# Altium integrated library HU_revB.IntLib: 70 symbols (part 1 of 2)
Pins are listed as number, name and electrical type; pins without a type are passive.

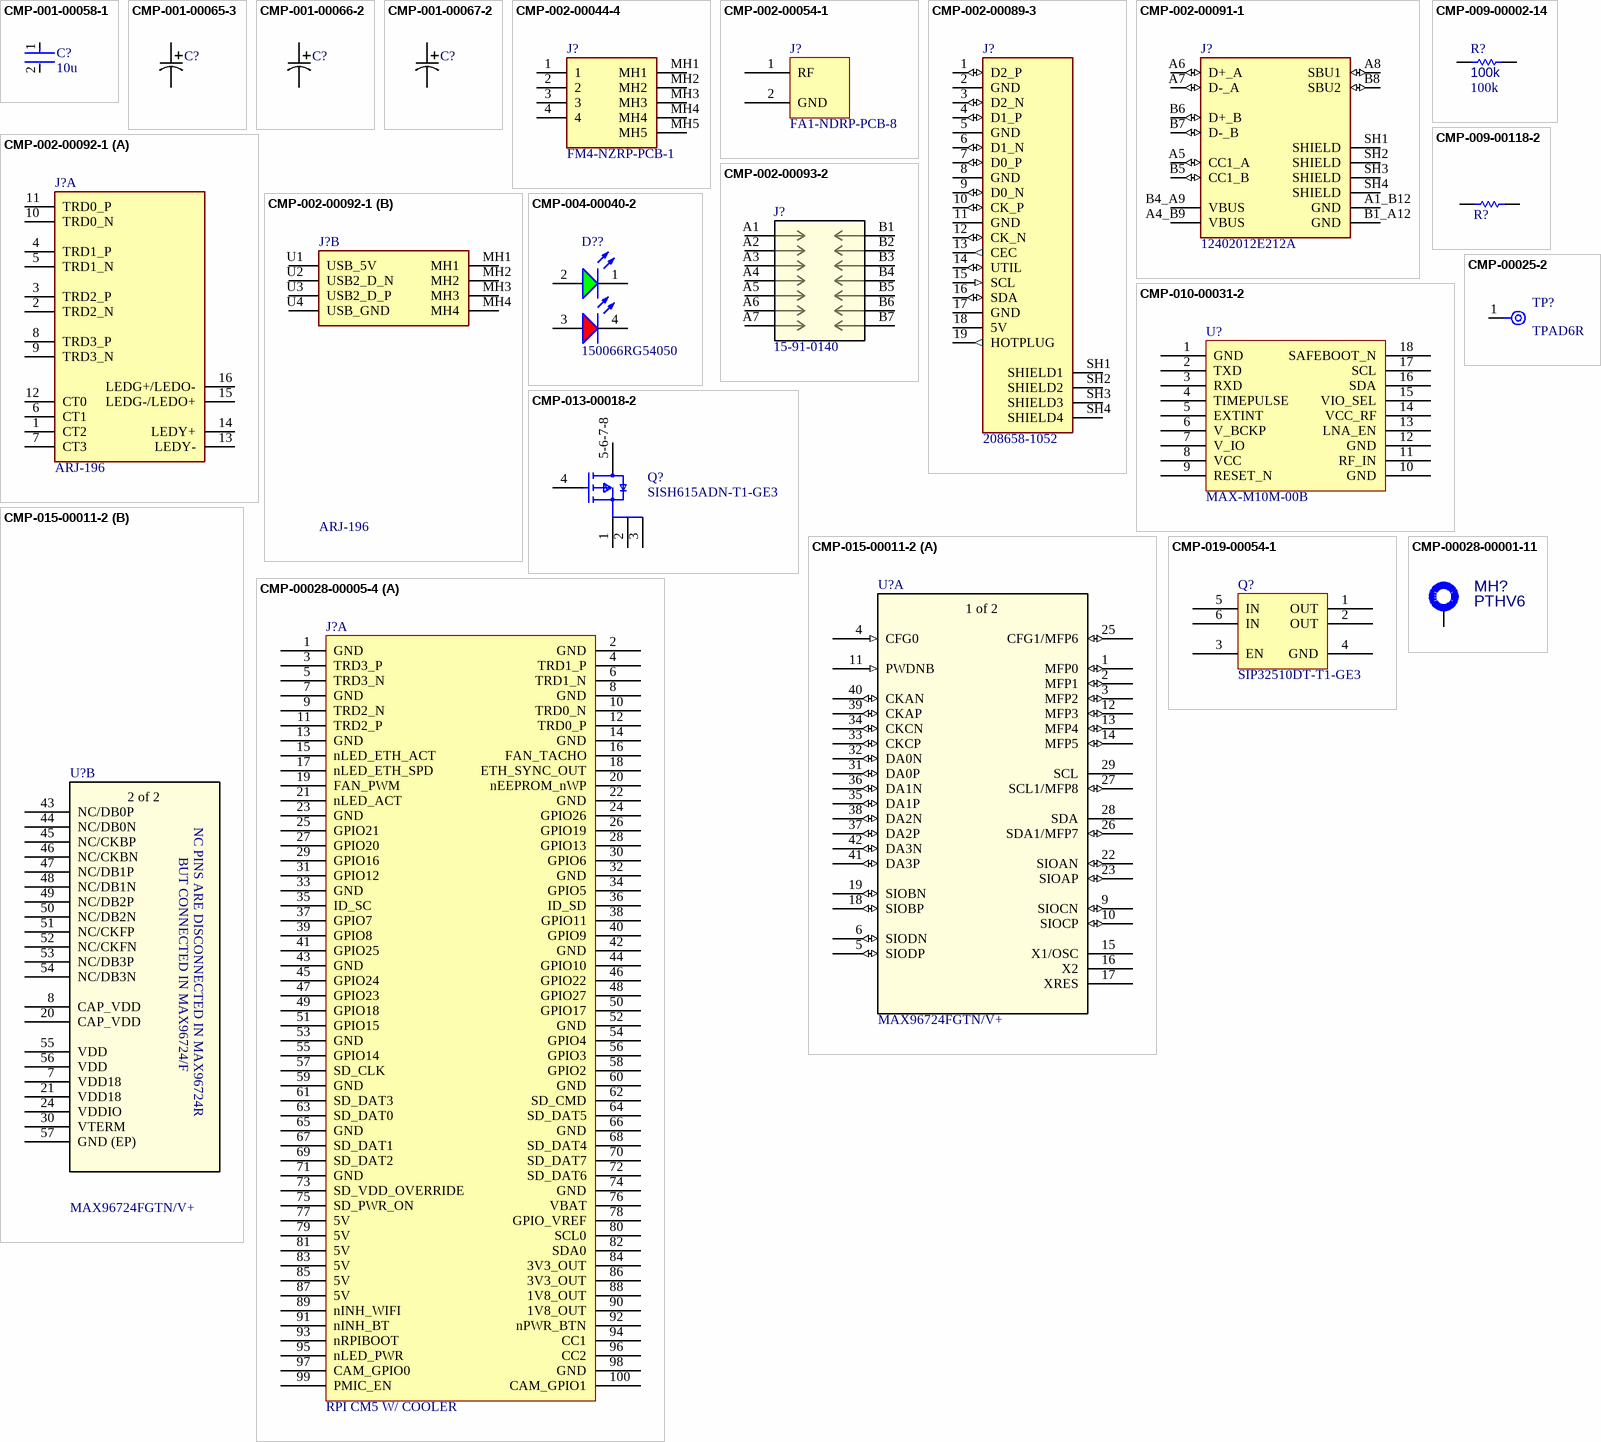
[diagram p0: symbols CMP-001-00058-1 to CMP-00028-00005-4]

## CMP-001-00058-1
designator C?, comment 10u
LARGE PADS, 0402 CAP, CHANGE COMMENT TO MATCH REAL P/N; Manufacturer: Taiyo Yuden; Manufacturer Part Number: EMK105BJ105KV-F; Capacitor Type: Ceramic; Min Operating Temperature: -55°C; Mounting Technology: Surface Mount; Pins: 2; Case/Package: 0402; RoHS Compliant: Yes; Max Operating Temperature: 85°C; Component Type: Capacitors
footprint FP-0402-L_1_0_0_05-W_0_5-IPC_A
footprint FP-0402-L_1_0_0_05-W_0_5-IPC_C
footprint FP-0402-L_1_0_0_05-W_0_5-IPC_B
footprint FP-0402-L_1_0_0_05-W_0_5-MFG
pins: 1, 2

## CMP-001-00065-3
designator C?, comment T495D106M035ATE260  (value not drawn)
Tantalum Capacitor, Polarized, Tantalum (dry/solid), 35V, 20% +Tol, 20% -Tol, 10uF, Surface Mount, 2917; Manufacturer: KEMET; Value: 10µF; Case/Package: Molded; Mounting Technology: Surface Mount; Max Operating Temperature: 125°C; Tolerance: 20%; Min Operating Temperature: -55°C; Manufacturer Part Number: T495D106M035ATE260; Component Type: Capacitors
footprint T495D106M035ATE260-Footprint-1
pins: 1, 2

## CMP-001-00066-2
designator C?, comment T495D475K050ATE300  (value not drawn)
Cap Tant Solid 4.7uF 50V D CASE 10% (7.3 X 4.3 X 2.8mm) SMD 7343-31 0.3 Ohm 125 C T/R; Manufacturer: KEMET; Value: 4.7µF; Min Operating Temperature: -55°C; Voltage Rating: 50V; Tolerance: 10%; Mounting Technology: Surface Mount; Max Operating Temperature: 125°C; Case/Package: 7343-31; Pins: 2; Manufacturer Part Number: T495D475K050ATE300; Component Type: Capacitors
footprint T495D475K050ATE300-Footprint-1
pins: 1, 2

## CMP-001-00067-2
designator C?, comment T495D337K010ATE150  (value not drawn)
330uF Solid MnO2 Tantalum Capacitor, 10 V dc +/-10%, T495 Series; Manufacturer: KEMET; Tolerance: 10%; Voltage Rating: 10V; Value: 330µF; Case/Package: 2917; Min Operating Temperature: -55°C; Mounting Technology: Surface Mount; Max Operating Temperature: 125°C; Manufacturer Part Number: T495D337K010ATE150; Component Type: Capacitors
footprint T495D337K010ATE150-Footprint-1
pins: 1, 2

## CMP-002-00044-4
designator J?, comment FM4-NZRP-PCB-1
Connector RF Mini-FAKRA Plug 9GHz 50Ohm Solder Right Angle Through Hole; Source: fakra4ch.SchLib; Component Type: Standard; Pins: 9; Design Item ID: CMP-002-00085-1; Component Type: Connectors
footprint FM4-NZRP-PCB-1-Footprint-1
pins: 1, 2, 3, 4, MH1, MH2, MH3, MH4, MH5

## CMP-002-00054-1
designator J?, comment FA1-NDRP-PCB-8
RF F Connector, Male, Board Mount, Solder Terminal, Plug; Manufacturer: Amphenol RF; Connector Type: RF F CONNECTOR; RoHS Compliant: Yes; Mounting Technology: Board; Manufacturer Part Number: FA1-NDRP-PCB-8; Component Type: Connectors
footprint FA1-NDRP-PCB-8-Footprint-1
pins: 1 RF, 2 GND

## CMP-002-00089-3
designator J?, comment 208658-1052
HDMI CONNECTOR, RCPT, 19POS, SMT; Available until stocks are exhausted Alternative available; Manufacturer: Molex; Gender: Female; Min Operating Temperature: -20°C; Max Operating Temperature: 85°C; Pins: 19; Manufacturer Part Number: 208658-1052; Component Type: Connectors
footprint 208658-1052-Footprint-1
pins: 1 D2_P (io), 2 GND, 3 D2_N (io), 4 D1_P (io), 5 GND, 6 D1_N (io), 7 D0_P (io), 8 GND, 9 D0_N (io), 10 CK_P (io), 11 GND, 12 CK_N (io), 13 CEC (out), 14 UTIL (io), 15 SCL (in), 16 SDA (io), 17 GND, 18 5V, 19 HOTPLUG (out), SH1 SHIELD1, SH2 SHIELD2, SH3 SHIELD3, SH4 SHIELD4

## CMP-002-00091-1
designator J?, comment 12402012E212A
USB Connector, USB Type C, USB 2.0, Receptacle, 24 Ways, Surface Mount, Through Hole Mount; Manufacturer: Amphenol; Pins: 24; Manufacturer Part Number: 12402012E212A; Component Type: Connectors
footprint 12402012E212A-Footprint-1
pins: A1_B12 GND (power), A4_B9 VBUS (power), A5 CC1_A (io), A6 D+_A (io), A7 D-_A (io), A8 SBU1 (io), B1_A12 GND (power), B4_A9 VBUS (power), B5 CC1_B (io), B6 D+_B (io), B7 D-_B (io), B8 SBU2 (io), SH1 SHIELD, SH2 SHIELD, SH3 SHIELD, SH4 SHIELD

## CMP-002-00092-1
designator J?, comment ARJ-196
Modular Connectors / Ethernet Connectors CONN MAGJACK 1PORT 1000 BASE-T; Manufacturer: Abracon; Connector Type: RJ45, USB; Max Operating Temperature: 85°C; Mounting Technology: Through Hole; Min Operating Temperature: -40°C; Manufacturer Part Number: ARJ-196; Component Type: Connectors
footprint ARJ-196-Footprint-1
part A pins: 1 CT2, 2 TRD2_N, 3 TRD2_P, 4 TRD1_P, 5 TRD1_N, 6 CT1, 7 CT3, 8 TRD3_P, 9 TRD3_N, 10 TRD0_N, 11 TRD0_P, 12 CT0, 13 LEDY-, 14 LEDY+, 15 LEDG-/LEDO+, 16 LEDG+/LEDO-
part B pins: MH1, MH2, MH3, MH4, U1 USB_5V, U2 USB2_D_N, U3 USB2_D_P, U4 USB_GND

## CMP-002-00093-2
designator J?, comment 15-91-0140
Conn.; Rect./PCB; Header; 14 Circuit; SMT; Dual Row; Vertical; C-Grid Series; Gold Plate; Manufacturer: Molex; Gender: Male; Min Operating Temperature: -40°C; Max Operating Temperature: 105°C; Mounting Technology: Surface Mount; Pins: 14; Manufacturer Part Number: 15-91-0140; Component Type: Connectors
footprint 15-91-0140-Footprint-1
pins: A1, A2, A3, A4, A5, A6, A7, B1, B2, B3, B4, B5, B6, B7

## CMP-004-00040-2
designator D??, comment 150066RG54050
Led, Red/Grn, 180Mcd/230Mcd, 624Nm/525Nm Rohs Compliant: Yes; Source: rgled.SchLib; Component Type: Standard; Pins: 4; Design Item ID: CMP-004-00034-2; Component Type: Diodes
footprint WL-SBCD_0606 (SMT Bi-color Chip LED Diffuesed, body 1.5x1.6mm)
pins: 1 K, 2 A, 3 A, 4 K

## CMP-009-00002-14
designator R?, comment 100k
Resistor; Value: 100k; Component Type: Resistors
footprint R0805A (0805 Chip Resistor, Body 2.00x1.25mm, IPC Low Density)
footprint R0603A (Chip Resistor, 2-Leads, Body 1.55x0.80mm, IPC Low Density)
footprint R1206A (Chip Resistor, 2-Leads, Body 3.20x1.60mm, IPC Low Density)
footprint R2010A (Chip Resistor, 2-Leads, Body 5.08x2.54mm, IPC Low Density)
footprint R0603B (Chip Resistor, 0603, 2-Leads, Body 1.58x0.85mm, IPC Medium Density)
footprint R0805B (Chip Resistor, 0805, 2-Leads, Body 2.05x1.25mm, IPC Medium Density)
footprint R1206B (Chip Resistor, 1206, 2-Leads, Body 3.20x1.60mm, IPC Medium Density)
footprint 2512A
footprint Resistor-Footprint-1
pins: 1, 2

## CMP-009-00118-2
designator R?, comment 0402 JUMPER  (value not drawn)
READ THE NAME; Pins: 2; Component Type: Standard; Design Item ID: CMP-009-00206-2; Source: 0402jump.SchLib; Component Type: Resistors
footprint RESC1005X40X25ML05T05 (Chip Resistor, 2-Leads, Body 1.00x0.50mm, IPC Low Density)
footprint RESC1005X40X25LL05T05 (Chip Resistor, 2-Leads, Body 1.00x0.50mm, IPC High Density)
footprint RESC1005X40X25NL05T05 (Chip Resistor, 2-Leads, Body 1.00x0.50mm, IPC Medium Density)
pins: 1, 2
1 alternate drawing of the same symbol

## CMP-010-00031-2
designator U?, comment MAX-M10M-00B
Gnss Lcc Rx Mod, Rom, Crystal; Manufacturer: u-blox; Manufacturer Part Number: MAX-M10M-00B; Component Type: Sensors
footprint MAX-M10M-00B-Footprint-1
pins: 1 GND, 2 TXD, 3 RXD, 4 TIMEPULSE, 5 EXTINT, 6 V_BCKP, 7 V_IO, 8 VCC, 9 RESET_N, 10 GND, 11 RF_IN, 12 GND, 13 LNA_EN, 14 VCC_RF, 15 VIO_SEL, 16 SDA, 17 SCL, 18 SAFEBOOT_N

## CMP-013-00018-2
designator Q?, comment SISH615ADN-T1-GE3
Trans MOSFET P-CH 20V 22.1A 8-Pin PowerPAK 1212 EP T/R; Source: SISH615ADN-T1-GE3.SchLib; Design Item ID: CMP-013-00036-4; Component Type: Standard; Pins: 5; Component Type: Transistors
footprint SISH615ADN-T1-GE3-Footprint-1
pins: 1 S, 2 S, 3 S, 4 G, 5-6-7-8 D

## CMP-015-00011-2
designator U?, comment MAX96724FGTN/V+
Quad Tunneling GMSL2/1 to CSI-2 Deserializer; Manufacturer: Analog Devices; Manufacturer Part Number: MAX96724FGTN/V+; Component Type: Interface
footprint MAX96724FGTN_V+-Footprint-1
part A pins: 1 MFP0 (io), 2 MFP1 (io), 3 MFP2 (io), 4 CFG0 (in), 5 SIODP (io), 6 SIODN (io), 9 SIOCN (io), 10 SIOCP (io), 11 PWDNB (in), 12 MFP3 (io), 13 MFP4 (io), 14 MFP5 (io), 15 X1/OSC, 16 X2, 17 XRES, 18 SIOBP (io), 19 SIOBN (io), 22 SIOAN (io), 23 SIOAP (io), 25 CFG1/MFP6 (io), 26 SDA1/MFP7 (io), 27 SCL1/MFP8 (io), 28 SDA, 29 SCL, 31 DA0P (io), 32 DA0N (io), 33 CKCP (io), 34 CKCN (io), 35 DA1P (io), 36 DA1N (io), 37 DA2P (io), 38 DA2N (io), 39 CKAP (io), 40 CKAN (io), 41 DA3P (io), 42 DA3N (io)
part B pins: 7 VDD18 (power), 8 CAP_VDD (power), 20 CAP_VDD (power), 21 VDD18 (power), 24 VDDIO (power), 30 VTERM (power), 43 NC/DB0P, 44 NC/DB0N, 45 NC/CKBP, 46 NC/CKBN, 47 NC/DB1P, 48 NC/DB1N, 49 NC/DB2P, 50 NC/DB2N, 51 NC/CKFP, 52 NC/CKFN, 53 NC/DB3P, 54 NC/DB3N, 55 VDD (power), 56 VDD (power), 57 GND (EP) (power)
part A text: 1 of 2
part B text: 2 of 2; NC PINS ARE DISCONNECTED IN MAX96724R; BUT CONNECTED IN MAX96724/F

## CMP-019-00054-1
designator Q?, comment SIP32510DT-T1-GE3
Power Switch ICs – Power Distribution; VISHAY; SIP32510DT-T1-GE3; 1; 1; 5.5 V; SOT-23-6; Max Supply Voltage: 5.5V; Max Power Dissipation: 833mW; Min Supply Voltage: 1.2V; Case/Package: SOT-23-6; Mounting Technology: Surface Mount; Max Operating Temperature: 85°C; Min Operating Temperature: -40°C; Manufacturer: Vishay; Manufacturer Part Number: SIP32510DT-T1-GE3; Component Type: Power Supply
footprint SOT95P284X110-6N (SOT23, 6-Leads, Body 2.98x2.84mm, Pitch 0.95mm, IPC Medium Density)
pins: 1 OUT, 2 OUT, 3 EN, 4 GND, 5 IN, 6 IN

## CMP-00025-2
designator TP?, comment TPAD6R
Test Point .6mm; Component Type: Test Points
footprint New footprint 1
pins: 1 TP

## CMP-00028-00001-11
designator MH?, comment PTHV6  (net tie, no BOM)
Plated mounting hole with 6 peripheral vias. This is a generic symbol that groups all relevant footprints.; Component Type: Mechanical
footprint PTHV6 4-40 Tight (4-40 plated mounting hole with 6 peripheral vias. 0.25in OD, 0.12in ID. Won't fit washers, may not fit some screws or standoffs)
footprint PTHV6 4-40 (4-40 plated mounting hole with 6 peripheral vias. 0.25in OD, 0.12in ID. Accomodates up to 0.32in OD washers)
footprint PTHV6 M2.5 Tight (M2.5 plated mounting hole with 6 peripheral vias. 6mm OD, 3mm ID)
footprint PTHV6 M3 Tight (M3 plated mounting hole with 6 peripheral vias. 7mm OD, 3.4mm ID)
footprint PTHV6 M2
pins: 1 MH, 2 V1, 3 V2, 4 V3, 5 V4, 6 V5, 7 V6

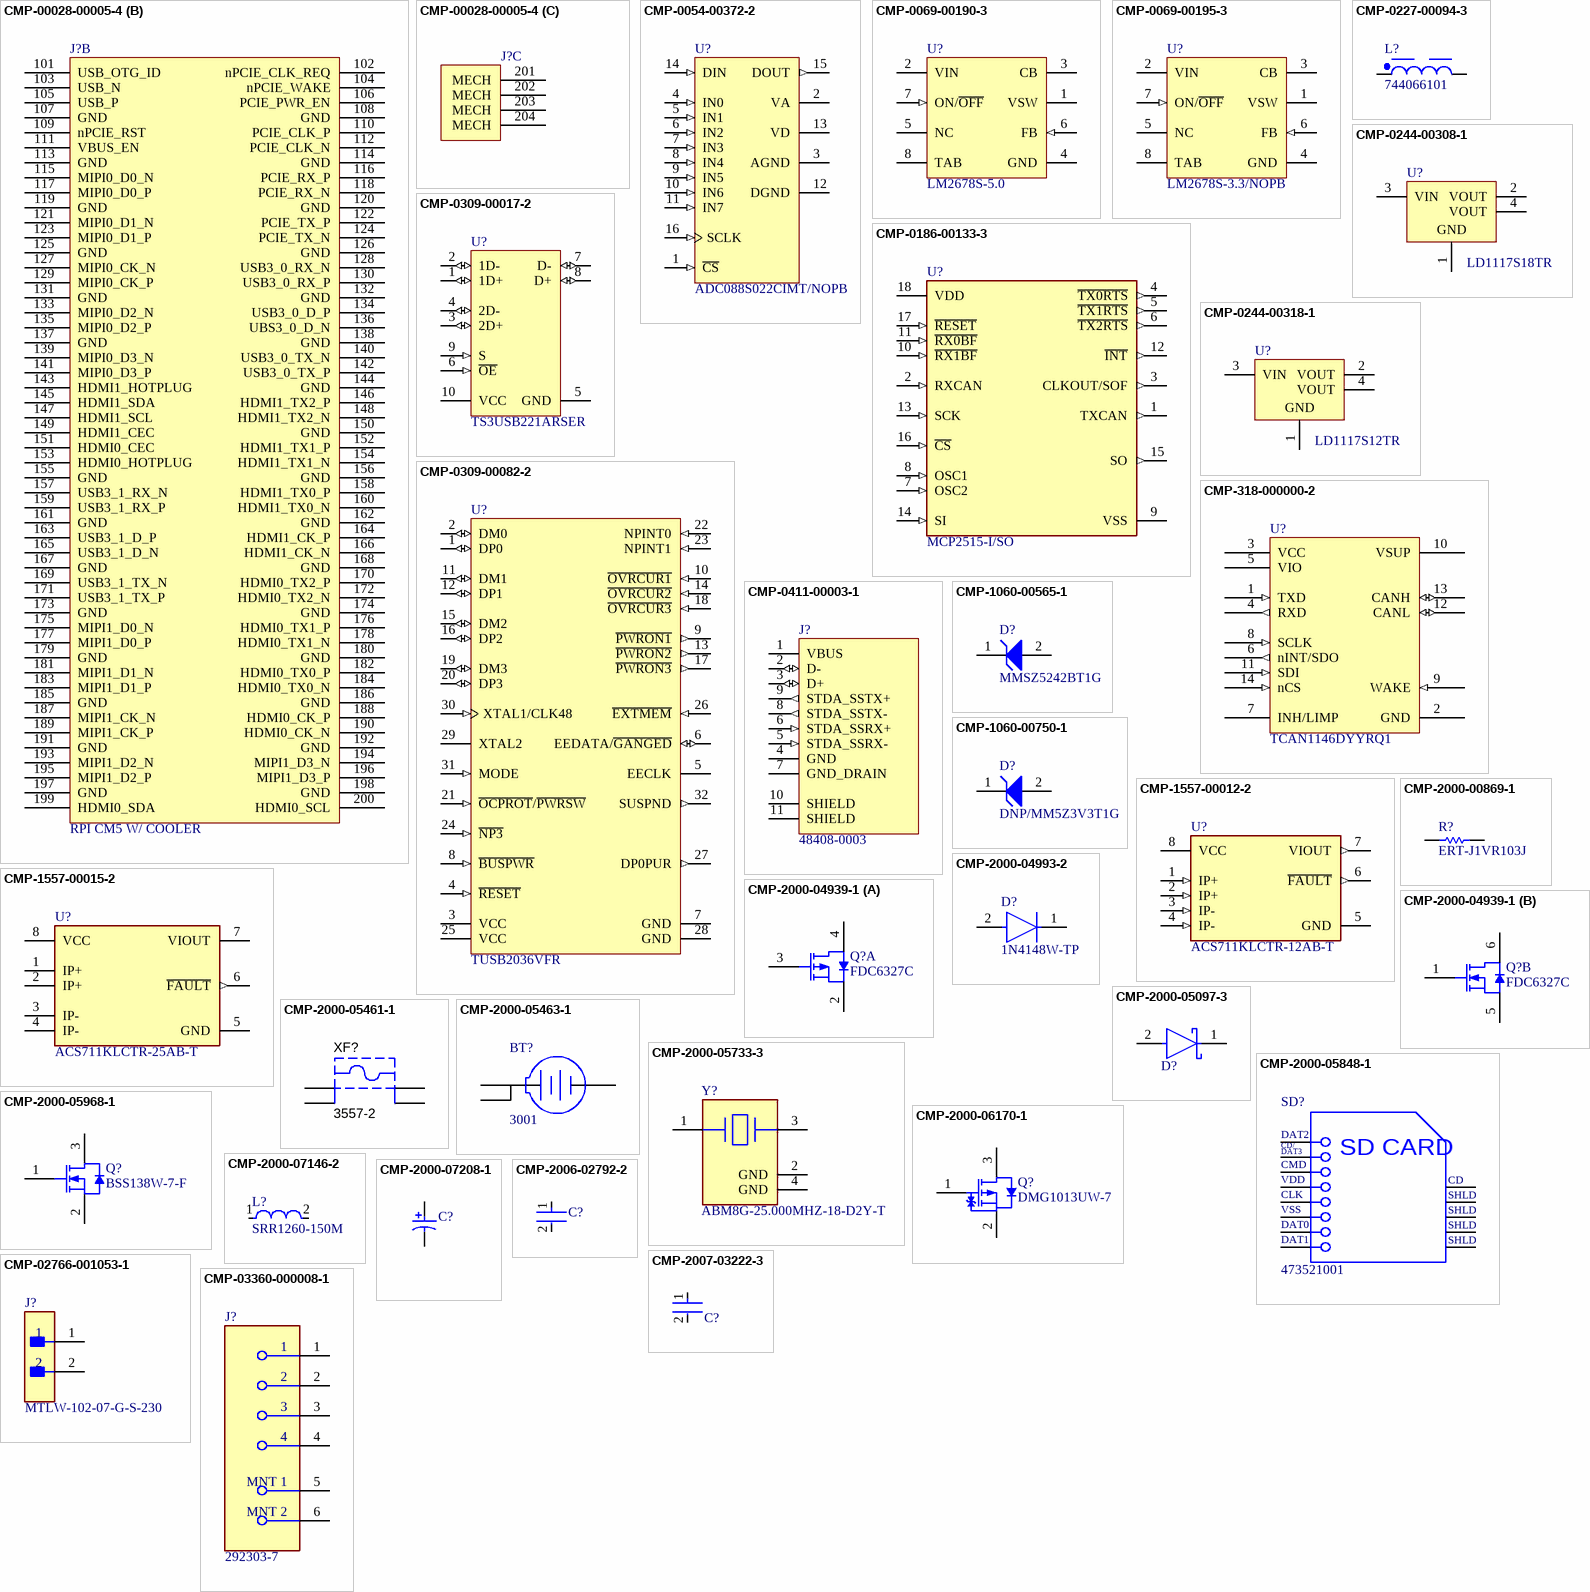
[diagram p1: symbols CMP-00028-00005-4 to CMP-03360-000008-1]

## CMP-00028-00005-4
designator J?, comment RPI CM5 W/ COOLER
Mechanical placeholder for RPI CM5 w/ active cooler on it; Manufacturer: Raspberry Pi; Manufacturer Part Number: CM5116032; Component Type: Mechanical
footprint RPI CM5 W_ COOLER-Footprint-1
part A pins: 1 GND, 2 GND, 3 TRD3_P, 4 TRD1_P, 5 TRD3_N, 6 TRD1_N, 7 GND, 8 GND, 9 TRD2_N, 10 TRD0_N, 11 TRD2_P, 12 TRD0_P, 13 GND, 14 GND, 15 nLED_ETH_ACT, 16 FAN_TACHO, 17 nLED_ETH_SPD, 18 ETH_SYNC_OUT, 19 FAN_PWM, 20 nEEPROM_nWP, 21 nLED_ACT, 22 GND, 23 GND, 24 GPIO26, 25 GPIO21, 26 GPIO19, 27 GPIO20, 28 GPIO13, 29 GPIO16, 30 GPIO6, 31 GPIO12, 32 GND, 33 GND, 34 GPIO5, 35 ID_SC, 36 ID_SD, 37 GPIO7, 38 GPIO11, 39 GPIO8, 40 GPIO9, 41 GPIO25, 42 GND, 43 GND, 44 GPIO10, 45 GPIO24, 46 GPIO22, 47 GPIO23, 48 GPIO27, 49 GPIO18, 50 GPIO17, 51 GPIO15, 52 GND, 53 GND, 54 GPIO4, 55 GPIO14, 56 GPIO3, 57 SD_CLK, 58 GPIO2, 59 GND, 60 GND, 61 SD_DAT3, 62 SD_CMD, 63 SD_DAT0, 64 SD_DAT5, 65 GND, 66 GND, 67 SD_DAT1, 68 SD_DAT4, 69 SD_DAT2, 70 SD_DAT7, 71 GND, 72 SD_DAT6, 73 SD_VDD_OVERRIDE, 74 GND, 75 SD_PWR_ON, 76 VBAT, 77 5V, 78 GPIO_VREF, 79 5V, 80 SCL0, 81 5V, 82 SDA0, 83 5V, 84 3V3_OUT, 85 5V, 86 3V3_OUT, 87 5V, 88 1V8_OUT, 89 nINH_WIFI, 90 1V8_OUT, 91 nINH_BT, 92 nPWR_BTN, 93 nRPIBOOT, 94 CC1, 95 nLED_PWR, 96 CC2, 97 CAM_GPIO0, 98 GND, 99 PMIC_EN, 100 CAM_GPIO1
part B pins: 101 USB_OTG_ID, 102 nPCIE_CLK_REQ, 103 USB_N, 104 nPCIE_WAKE, 105 USB_P, 106 PCIE_PWR_EN, 107 GND, 108 GND, 109 nPCIE_RST, 110 PCIE_CLK_P, 111 VBUS_EN, 112 PCIE_CLK_N, 113 GND, 114 GND, 115 MIPI0_D0_N, 116 PCIE_RX_P, 117 MIPI0_D0_P, 118 PCIE_RX_N, 119 GND, 120 GND, 121 MIPI0_D1_N, 122 PCIE_TX_P, 123 MIPI0_D1_P, 124 PCIE_TX_N, 125 GND, 126 GND, 127 MIPI0_CK_N, 128 USB3_0_RX_N, 129 MIPI0_CK_P, 130 USB3_0_RX_P, 131 GND, 132 GND, 133 MIPI0_D2_N, 134 USB3_0_D_P, 135 MIPI0_D2_P, 136 UBS3_0_D_N, 137 GND, 138 GND, 139 MIPI0_D3_N, 140 USB3_0_TX_N, 141 MIPI0_D3_P, 142 USB3_0_TX_P, 143 HDMI1_HOTPLUG, 144 GND, 145 HDMI1_SDA, 146 HDMI1_TX2_P, 147 HDMI1_SCL, 148 HDMI1_TX2_N, 149 HDMI1_CEC, 150 GND, 151 HDMI0_CEC, 152 HDMI1_TX1_P, 153 HDMI0_HOTPLUG, 154 HDMI1_TX1_N, 155 GND, 156 GND, 157 USB3_1_RX_N, 158 HDMI1_TX0_P, 159 USB3_1_RX_P, 160 HDMI1_TX0_N, 161 GND, 162 GND, 163 USB3_1_D_P, 164 HDMI1_CK_P, 165 USB3_1_D_N, 166 HDMI1_CK_N, 167 GND, 168 GND, 169 USB3_1_TX_N, 170 HDMI0_TX2_P, 171 USB3_1_TX_P, 172 HDMI0_TX2_N, 173 GND, 174 GND, 175 MIPI1_D0_N, 176 HDMI0_TX1_P, 177 MIPI1_D0_P, 178 HDMI0_TX1_N, 179 GND, 180 GND, 181 MIPI1_D1_N, 182 HDMI0_TX0_P, 183 MIPI1_D1_P, 184 HDMI0_TX0_N, 185 GND, 186 GND, 187 MIPI1_CK_N, 188 HDMI0_CK_P, 189 MIPI1_CK_P, 190 HDMI0_CK_N, 191 GND, 192 GND, 193 MIPI1_D2_N, 194 MIPI1_D3_N, 195 MIPI1_D2_P, 196 MIPI1_D3_P, 197 GND, 198 GND, 199 HDMI0_SDA, 200 HDMI0_SCL
part C pins: 201 MECH, 202 MECH, 203 MECH, 204 MECH

## CMP-0054-00372-2
designator U?, comment ADC088S022CIMT/NOPB
8-Channel, 50 kSPS to 200 kSPS, 8-Bit A/D Converter, 16-pin TSSOP, Pb-Free; Manufacturer: National Semiconductor; PackageTopMarking: NSUZXYTT*88S022*CIMT; CompType: ADC IC; PowerWise: Y; ComponentLink2URL: http://www.national.com/pf/AD/ADC088S022.html; RoHS: Y; PackageDescription: Molded TSSOP, Jedec, 5 x 4.4 x 0.9mm Body, 16 Lead, 0.65mm Pitch; DatasheetVersion: Feb-2010; PinCount: 16; ComponentLink1Description: ADC088S022 Datasheet; Code_JEDEC: MO-153-AB; ComponentLink3URL: http://www.national.com/packaging/folders/mtc16.html; PackageVersion: revD, Jun-2003; ComponentLink3Description: MTC16 Package Page; RevisionNote: Component URLs added; ComponentLink1URL: http://www.national.com/ds/AD/ADC088S022.pdf; ComponentLink2Description: ADC088S022 Web Page; PackageReference: MTC16
footprint MTC16_L (TSOP, 16-Leads, Body 5x4.4mm, Pitch 0.65mm, IPC High Density)
footprint MTC16_N (TSOP, 16-Leads, Body 5x4.4mm, Pitch 0.65mm, IPC Medium Density)
footprint MTC16_M (TSOP, 16-Leads, Body 5x4.4mm, Pitch 0.65mm, IPC Low Density)
pins: 1 ~{CS} (in), 2 VA (power), 3 AGND (power), 4 IN0 (in), 5 IN1 (in), 6 IN2 (in), 7 IN3 (in), 8 IN4 (in), 9 IN5 (in), 10 IN6 (in), 11 IN7 (in), 12 DGND (power), 13 VD (power), 14 DIN (in), 15 DOUT (out), 16 SCLK (in)

## CMP-0069-00190-3
designator U?, comment LM2678S-5.0
SIMPLE SWITCHER® High Efficiency 5A Step-Down Voltage Regulator, 7-pin TO-263; Manufacturer: Texas Instruments; PowerWise: N; PackageTopMarking: NSUZXYTTE#*LM2678*S-5.0; RoHS: N; PinCount: 7; Code_JEDEC: MO-169-AC; ComponentLink1URL: http://www.ti.com/general/docs/lit/getliterature.tsp?genericPartNumber=LM2678&fileType=pdf; ComponentLink1Description: Datasheet URL; PackageReference: KTW0007B; PackageDescription: TO-263, Molded, .400 x .390 x .180in Body, 7 Lead, .050in Pitch, Surface Mount; CompType: Switcher
footprint KTW0007B_N (DPAK, 7-Leads, Body 9.4x10.4mm, Pitch 1.27mm, IPC Medium Density)
footprint KTW0007B_M (DPAK, 7-Leads, Body 9.4x10.4mm, Pitch 1.27mm, IPC Low Density)
footprint KTW0007B_L (DPAK, 7-Leads, Body 9.4x10.4mm, Pitch 1.27mm, IPC High Density)
pins: 1 VSW (power), 2 VIN (power), 3 CB, 4 GND (power), 5 NC, 6 FB (in), 7 ON/~{OFF} (in), 8 TAB (power)

## CMP-0069-00195-3
designator U?, comment LM2678S-3.3/NOPB
SIMPLE SWITCHER® High Efficiency 5A Step-Down Voltage Regulator, 7-pin TO-263, Pb-Free; Manufacturer: Texas Instruments; PackageTopMarking: NSUZXYTTE#*LM2678*S-3.3; PowerWise: N; PackageReference: KTW0007B; Code_JEDEC: MO-169-AC; CompType: Switcher; RoHS: Y; PackageDescription: TO-263, Molded, .400 x .390 x .180in Body, 7 Lead, .050in Pitch, Surface Mount; ComponentLink1Description: Datasheet URL; PinCount: 7; ComponentLink1URL: http://www.ti.com/general/docs/lit/getliterature.tsp?genericPartNumber=LM2678&fileType=pdf
footprint KTW0007B_N (DPAK, 7-Leads, Body 9.4x10.4mm, Pitch 1.27mm, IPC Medium Density)
footprint KTW0007B_L (DPAK, 7-Leads, Body 9.4x10.4mm, Pitch 1.27mm, IPC High Density)
footprint KTW0007B_M (DPAK, 7-Leads, Body 9.4x10.4mm, Pitch 1.27mm, IPC Low Density)
pins: 1 VSW (power), 2 VIN (power), 3 CB, 4 GND (power), 5 NC, 6 FB (in), 7 ON/~{OFF} (in), 8 TAB (power)

## CMP-0186-00133-3
designator U?, comment MCP2515-I/SO
IC CAN CONTROLLER W/SPI 18SOIC; Manufacturer: Microchip; Min Supply Voltage: 2.7V; Max Supply Voltage: 5.5V; Standoff Height: 0.1mm; Nominal Supply Current: 10mA; Interface: SPI,CAN; Lead Free: Yes; Digikey Description: IC CAN CONTROLLER W/SPI 18SOIC; Category: IC; RoHS: TRUE; Manufacturer Part Number: MCP2515-I/SO; ComponentLink2URL: http://ww1.microchip.com/downloads/en/DeviceDoc/MCP2515-Stand-Alone-CAN-Controller-with-SPI-20001801J.pdf; Mouser Description: CAN Interface IC W/ SPI Interface; Device Class L2: Interface ICs; Package: C04-051; Automotive: No; Function: Controller; Octopart: https://octopart.com/mcp2515-i%2Fso-microchip-430187; Temperature: -40°C to +85°C; Ipc Land Pattern Name: SOIC127P1030X265-18; Ambient Temperature Range Low: -65°C; Height: 2.65mm; Device Class L1: Integrated Circuits (ICs); Ambient Temperature Range High: +125°C; Footprint Url: http://ww1.microchip.com/downloads/en/DeviceDoc/18L_SOIC_Wide_7.50_SO_C04-0051D.pdf; Temperature Range Low: -40°C; Device Class L3: Controllers; Temperature Range High: +85°C; ComponentLink2Description: Datasheet
footprint FP-C04-051-MFG
footprint FP-C04-051-IPC_C
footprint FP-C04-051-IPC_B
footprint FP-C04-051-IPC_A
pins: 1 TXCAN (out), 2 RXCAN (in), 3 CLKOUT/SOF (out), 4 ~{TX0RTS} (out), 5 ~{TX1RTS} (out), 6 ~{TX2RTS} (out), 7 OSC2 (in), 8 OSC1 (in), 9 VSS (power), 10 ~{RX1BF} (in), 11 ~{RX0BF} (in), 12 ~{INT} (out), 13 SCK (in), 14 SI (in), 15 SO (out), 16 ~{CS} (in), 17 ~{RESET} (in), 18 VDD (power)

## CMP-0227-00094-3
designator L?, comment 744066101
NexarPartId: 8917123; Current Rating: 1.2A; Shielding: Shielded; Core Material: Ferrite; Inductance: 100µH; Test Frequency: 100kHz; Tolerance: 30%; Resistance: 255mΩ; Self Resonant Frequency: 6MHz; Composition: Wirewound; Packaging: Cut Tape (CT); REACH SVHC: Unknown; Number of Pins: 2; Max DC Current: 1.2A; Saturation Current: 1.2A; Ambient Temperature Range High: 95°C; Weight: 1.273007g; Height: 3.8mm; Width: 10mm; Min Operating Temperature: -40°C; Max Operating Temperature: 125°C; Termination: SMD/SMT; Height - Seated (Max): 4.0894mm; Length: 10mm; RMS Current (Irms): 1.2A; Ambient Temperature Range Low: -40°C; RoHS: Compliant; Mount: Surface Mount; Depth: 10mm; DC Resistance (DCR): 255mΩ; Inductance Tolerance: 30%; Case/Package: Nonstandard
footprint WE-TPC_1038 (Power Choke Shielded Wirewound 1.5uH 30% 100KHz Ferrite 7.2A 7.5mOhm DCR T/R)
pins: 1, 2

## CMP-0244-00308-1
designator U?, comment LD1117S18TR
Fixed Low Drop Positive Voltage Regulator, 1.8V, 4-Pin SOT-223, Tape and Reel; ComponentLink1URL: http://www.st.com; PackageReference: SOT-223; PackageDescription: 4-Pin SOT-223 Package, 6.5 x 3.5 mm Body, 2.3 mm Pitch, 7 mm Lead Span; ComponentLink2URL: http://www.st.com/internet/com/TECHNICAL_RESOURCES/TECHNICAL_LITERATURE/DATASHEET/CD00000544.pdf; ComponentLink2Description: Datasheet; ComponentLink1Description: Manufacturer URL; DatasheetVersion: 1/11/2011; PackageVersion: 2010
footprint SOT-223_M (SOT223, 4-Leads, Body 6.5x3.5mm, Pitch 2.3mm, Lead Span 7mm, IPC Low Density)
footprint SOT-223_N (SOT223, 4-Leads, Body 6.5x3.5mm, Pitch 2.3mm, Lead Span 7mm, IPC Medium Density)
footprint SOT-223_L (SOT223, 4-Leads, Body 6.5x3.5mm, Pitch 2.3mm, Lead Span 7mm, IPC High Density)
pins: 1 GND (power), 2 VOUT (power), 3 VIN (power), 4 VOUT (power)

## CMP-0244-00318-1
designator U?, comment LD1117S12TR
Fixed Low Drop Positive Voltage Regulator, 1.2V, 4-Pin SOT-223, Tape and Reel; PackageDescription: 4-Pin SOT-223 Package, 6.5 x 3.5 mm Body, 2.3 mm Pitch, 7 mm Lead Span; PackageVersion: 2010; ComponentLink2Description: Datasheet; PackageReference: SOT-223; ComponentLink2URL: http://www.st.com/internet/com/TECHNICAL_RESOURCES/TECHNICAL_LITERATURE/DATASHEET/CD00000544.pdf; ComponentLink1Description: Manufacturer URL; DatasheetVersion: 1/11/2011; ComponentLink1URL: http://www.st.com
footprint SOT-223_M (SOT223, 4-Leads, Body 6.5x3.5mm, Pitch 2.3mm, Lead Span 7mm, IPC Low Density)
footprint SOT-223_N (SOT223, 4-Leads, Body 6.5x3.5mm, Pitch 2.3mm, Lead Span 7mm, IPC Medium Density)
footprint SOT-223_L (SOT223, 4-Leads, Body 6.5x3.5mm, Pitch 2.3mm, Lead Span 7mm, IPC High Density)
pins: 1 GND (power), 2 VOUT (power), 3 VIN (power), 4 VOUT (power)

## CMP-0309-00017-2
designator U?, comment TS3USB221ARSER
ESD Protected,High-Speed USB 2.0 (480-Mbps) 1:2 Multiplexer / Demultiplexer Switch, 1:2 Mux / Demux, 6 ohm RON, 2.5 to 3.3V, -40 to 85 degC, 10-Pin UQFN (RSE), Green (RoHS & no Sb/Br); Manufacturer: Texas Instruments; tpd max(ns): 0.25; RON Mis-match(Max)(Ohms): 0.2; OFF Time(Max)(ns): 12; Architecture: "1","2 mux/demux"; IL OFF(Max)(nA): 2; SubFamily: USB Switch; ESD HBM(kV): +/-7; ron(max)(ohms): 6; ON Time(Max)(ns): 30; Bandwidth(MHz): 900; RON Flatness(Max)(Ohms): 1; Vcc range(V): 2.3 to 3.6; Mounting Technology: Surface Mount; ComponentLink2URL: http://www.ti.com/lit/ml/mpqf186c/mpqf186c.pdf; PackageDescription: 10-Leads Plastic Quad Flatpack No-Lead, 2 x 1.5 x 0.55 mm Body, 0.5 mm Pitch; ComponentLink1URL: http://www.ti.com/general/docs/lit/getliterature.tsp?genericPartNumber=TS3USB221A&fileType=pdf; PackageReference: RSE0010A; ComponentLink2Description: Package Specification; PartNumber: TS3USB221ARSER; Code_JEDEC: MO-288-UEFD; DatasheetVersion: SCDS277; ComponentLink1Description: Datasheet; Eco-Plan: Green (RoHS & no Sb/Br); Number of Channels: 2; PackageVersion: revD, Jan-2011; ICC(uA): 30
footprint RSE0010A_V (QFN, 10-Leads, Body 1.5x2mm, Pitch 0.5mm, TI Recommended)
pins: 1 1D+ (io) "Bus B", 2 1D- (io) "Bus B", 3 2D+ (io) "Bus B", 4 2D- (io) "Bus B", 5 GND (power), 6 ~{OE} (in) "Bus-switch enable", 7 D- (io) "Bus A", 8 D+ (io) "Bus A", 9 S (in) "Select input", 10 VCC (power) "Power supply"

## CMP-0309-00082-2
designator U?, comment TUSB2036VFR
2 / 3-Port Hub for USB with Optional Serial EEPROM Interface, 3.3V, 0 to 70 degC, 32-Pin LQFP (VF), Green (RoHS & no Sb/Br); Manufacturer: Texas Instruments; Supply Voltage(s)(V): 3.3; SubFamily: USB Hub Controller; USB Speed: Full; USB Full Speed: True; PackageReference: VF0032A; ComponentLink2URL: http://www.ti.com/litv/pdf/mtqf002b; PackageDescription: 32-Pin Plastic Quad Flatpack, 7 x 7 mm Body, 0.8 mm Pitch; Integrated MCU Architecture: N/A; DatasheetVersion: SLLS372E; ComponentLink1URL: http://www.ti.com/general/docs/lit/getliterature.tsp?genericPartNumber=TUSB2036&fileType=pdf; Eco-Plan: Green (RoHS & no Sb/Br); PartNumber: TUSB2036VFR; Mounting Technology: Surface Mount; ComponentLink1Description: Datasheet; PackageVersion: revD, Apr-2000; ComponentLink2Description: Package Specification
footprint VF0032A_M (QFP, 32-Leads, Body 7x7mm, Pitch 0.8mm, IPC Low Density)
footprint VF0032A_L (QFP, 32-Leads, Body 7x7mm, Pitch 0.8mm, IPC High Density)
footprint VF0032A_N (QFP, 32-Leads, Body 7x7mm, Pitch 0.8mm, IPC Medium Density)
pins: 1 DP0 (io) "Root port USB differential data plus. DP0 paired with DM0 constitutes the upstream USB port.", 2 DM0 (io) "Root port USB differential data minus. DM0 paired with DP0 constitutes the upstream USB port.", 3 VCC (power) "3.3-V supply voltage", 4 ~{RESET} (in) "R\E\S\E\T\ is an active low TTL input with hysteresis and must be asserted at power up. When R\E\S\E\T\ is asserted, all logic is initialized. Generally, a reset with a pulse width between 100 us and 1 ms is recommended (See Datasheet)", 5 EECLK (hiz) "EEPROM serial clock. When EXTMEM is high, the EEPROM interface is disabled. The EECLK terminal is disabled and must be left floating (unconnected). When EXTMEM is low, EECLK acts as a 3-state serial clock output to the (See Datasheet)", 6 EEDATA/~{GANGED} (io) "EEPROM serial data/power-management mode indicator. When E\X\T\M\E\M\ is high, EEDATA/G\A\N\G\E\D\ selects between ganged or per-port power overcurrent detection for the downstream ports. When E\X\T\M\E\M\ is (See Datasheet)", 7 GND (power) "GND terminals must be tied to ground for proper operation", 8 ~{BUSPWR} (in) "Power source indicator. B\U\S\P\W\R\ is an active-low input that indicates whether the downstream ports source their power from the USB cable or a local power supply. For the bus-power mode, this terminal must be pulled low, (See Datasheet)", 9 ~{PWRON1} (out) "Power-on/-off control signals. P\W\R\O\N\1\-P\W\R\O\N\3\ are active low, push-pull outputs that enables the external power switch device. Push-pull outputs eliminate the pullup resistors which open-drain outputs require. (See Datasheet)", 10 ~{OVRCUR1} (in) "Overcurrent input. O\V\R\C\U\R\1\ - O\V\R\C\U\R\3\ are active low. For per-port overcurrent detection, one overcurrent input is available for each of the three downstream ports. In the ganged mode, any O\V\R\C\U\R\ input may (See Datasheet)", 11 DM1 (io) "USB differential data minus. DM1-DM3 paired with DP1-DP3 support up to four downstream USB ports.", 12 DP1 (io) "USB differential data plus. DP1-DP3 paired with DM1-DM3 support up to four downstream USB ports.", 13 ~{PWRON2} (out) "Power-on/-off control signals. P\W\R\O\N\1\-P\W\R\O\N\3\ are active low, push-pull outputs that enables the external power switch device. Push-pull outputs eliminate the pullup resistors which open-drain outputs require. (See Datasheet)", 14 ~{OVRCUR2} (in) "Overcurrent input. O\V\R\C\U\R\1\ - O\V\R\C\U\R\3\ are active low. For per-port overcurrent detection, one overcurrent input is available for each of the three downstream ports. In the ganged mode, any O\V\R\C\U\R\ input may (See Datasheet)", 15 DM2 (io) "USB differential data minus. DM1-DM3 paired with DP1-DP3 support up to four downstream USB ports.", 16 DP2 (io) "USB differential data plus. DP1-DP3 paired with DM1-DM3 support up to four downstream USB ports.", 17 ~{PWRON3} (out) "Power-on/-off control signals. P\W\R\O\N\1\-P\W\R\O\N\3\ are active low, push-pull outputs that enables the external power switch device. Push-pull outputs eliminate the pullup resistors which open-drain outputs require. (See Datasheet)", 18 ~{OVRCUR3} (in) "Overcurrent input. O\V\R\C\U\R\1\ - O\V\R\C\U\R\3\ are active low. For per-port overcurrent detection, one overcurrent input is available for each of the three downstream ports. In the ganged mode, any O\V\R\C\U\R\ input may (See Datasheet)", 19 DM3 (io) "USB differential data minus. DM1-DM3 paired with DP1-DP3 support up to four downstream USB ports.", 20 DP3 (io) "USB differential data plus. DP1-DP3 paired with DM1-DM3 support up to four downstream USB ports.", 21 ~{OCPROT}/~{PWRSW} (in) "Overcurrent Protection for bus-powered hub (active low). /Power Switching for self-powered hub (active low). The terminal has a different meaning for the bus or self-powered hub. If the terminal is logic high the internal (See Datasheet)", 22 NPINT0 (in) "Number of ports internal to hub system, which are permanently attached (see Table 1).", 23 NPINT1 (in) "Number of ports internal to hub system, which are permanently attached (see Table 1).", 24 ~{NP3} (in) "Number of ports is 3. Active low input. A logic 0 configures the system to use 3 ports. A logic 1 configures the system to use 2 ports.", 25 VCC (power) "3.3-V supply voltage", 26 ~{EXTMEM} (in) "When E\X\T\M\E\M\ is high, the serial EEPROM interface of the device is disabled. When E\X\T\M\E\M\ is low, terminals 5 and 6 are configured as the clock and data terminals of the serial EEPROM interface, respectively.", 27 DP0PUR (out) "Pullup resistor connection. When a system reset happens (R\E\S\E\T\ being driven to low, but not USB reset) or any logic level change on B\U\S\P\W\R\ terminal, DP0PUR output is inactive (floating) until the internal counter (See Datasheet)", 28 GND (power) "GND terminals must be tied to ground for proper operation.", 29 XTAL2 "Crystal 2. XTAL2 is a 6-MHz crystal output. This terminal must be left open when using an oscillator", 30 XTAL1/CLK48 (in) "Crystal 1/48-MHz clock input. When MODE is low, XTAL1/CLK48 is a 6-MHz crystal input with 50% duty cycle. An internal APLL generates the 48-MHz and 12-MHz clocks used internally by the ASIC logic. When MODE is (See Datasheet)", 31 MODE (in) "Mode select. When MODE is low, the APLL output clock is selected as the clock source to drive the internal core of the device and 6-MHz crystal or oscillator can be used. When MODE is high, the clock on XTAL1/CLK48 is (See Datasheet)", 32 SUSPND (out) "Suspend status. SUSPND is an active high output available for external logic power-down operations. During the suspend mode, SUSPND is high. SUSPND is low for normal operation."

## CMP-318-000000-2
designator U?, comment TCAN1146DYYRQ1
Automotive CAN FD transceiver with watchdog, bus diagnostics and partial networking via sele 14-SOT-23-THIN -40 to 150; Component Type: Standard; Design Item ID: CMP-015-00012-2; Pin Count: 14; Source: TCAN1146DYYRQ1.SchLib; Component Type: Interface
footprint TCAN1146DYYRQ1-Footprint-1
pins: 1 TXD (in), 2 GND (power), 3 VCC (power), 4 RXD (out), 5 VIO (power), 6 nINT/SDO (out), 7 INH/LIMP, 8 SCLK (in), 9 WAKE (in), 10 VSUP (power), 11 SDI (in), 12 CANL (io), 13 CANH (io), 14 nCS (in)

## CMP-0411-00003-1
designator J?, comment 48408-0003
Universal Serial Bus (USB 3.0) I/O Connector, Vertical, Type A, Through Hole, 9 Circuits, -20 to 85 degC, RoHS, Tray; No. of Positions: 9; No. of Rows: 2; Packing: Tray; Orientation: Vertical; ComponentLink3Description: Package Specification; ComponentLink2URL: http://www.molex.com/webdocs/datasheets/pdf/en-us/0484080003_IO_CONNECTORS.pdf; ComponentLink3URL: http://www.molex.com/pdm_docs/sd/484080003_sd.pdf; ComponentLink1Description: Manufacturer URL; PackageVersion: Rev. F, 12/2012; Mounting Technology: Through Hole; Temperature Min: -20 degC; ComponentLink2Description: Datasheet; PackageDescription: 9-Pin USB 3.0 I/O Receptacle, Vertical, Height 15.25 mm, Through Hole; PartNumber: 48408-0003; Temperature Max: 85 degC; RoHS: TRUE; ComponentLink1URL: http://www.molex.com/
footprint MOLX-48408-0003_V (USB 3.0 I/O Receptacle, 9-Leads, Vertical, Height 15.25 mm, Through Hole)
pins: 1 VBUS (power) "Power", 2 D- (io) "USB.2.0 differential pair", 3 D+ (io) "USB.2.0 differential pair", 4 GND (power) "Ground for power return", 5 STDA_SSRX- (in) "SuperSpeed receiver defferential pair", 6 STDA_SSRX+ (in) "SuperSpeed receiver defferential pair", 7 GND_DRAIN (power) "Ground for signal return", 8 STDA_SSTX- (out) "SuperSpeed transmitter differential pair", 9 STDA_SSTX+ (out) "SuperSpeed transmitter differential pair", 10 SHIELD "connector metal shell", 11 SHIELD "connector metal shell"

## CMP-1060-00565-1
designator D?, comment MMSZ5242BT1G
Zener Voltage Regulator, 500 mW, 2-Pin SOD-123, Pb-Free, Tape and Reel; Manufacturer: On Semiconductor; P Max (W): 0.5; VZ Typ (V): 12; PartNumber: MMSZ5242BT1G; PackageReference: SOD-123-2-425-04; ComponentLink3URL: http://www.onsemi.com/pub_link/Collateral/425-04.PDF; Mounting Technology: Surface Mount; ComponentLink2Description: Datasheet; ComponentLink1URL: http://www.onsemi.com/; ComponentLink3Description: Package Specification; PackageDescription: 2-Pin SOD, Body 1.6 x 2.69 mm; PackageVersion: Rev. G, 10/2009; ComponentLink1Description: Manufacturer URL; RoHS: Pb-Free; ComponentLink2URL: http://www.onsemi.com/pub_link/Collateral/MMSZ5221BT1-D.PDF; Packing: Tape and Reel; DatasheetVersion: Rev. 12
footprint ONSC-SOD-123-2-425-04_V (SOD, 2-Leads, Body 2.69x1.6mm)
pins: 1 K, 2 A

## CMP-1060-00750-1
designator D?, comment DNP/MM5Z3V3T1G
Zener Voltage Regulator, 500 mW, 2-Pin SOD-523, Pb-Free, Tape and Reel; Manufacturer: On Semiconductor; P Max (W): 0.5; VZ Typ (V): 3.3; RoHS: Pb-Free; ComponentLink2Description: Datasheet; PackageReference: SOD-523-2-502-01; DatasheetVersion: Rev. 10; ComponentLink1Description: Manufacturer URL; PackageVersion: Rev. E, 09/2010; ComponentLink3URL: http://www.onsemi.com/pub_link/Collateral/502-01.PDF; ComponentLink2URL: http://www.onsemi.cn/pub_link/Collateral/MM5Z2V4T1-D.PDF; Mounting Technology: Surface Mount; PartNumber: MM5Z3V3T1G; Packing: Tape and Reel; PackageDescription: 2-Pin SOD, Body 1.2 x 0.8 mm; ComponentLink1URL: http://www.onsemi.com/; ComponentLink3Description: Package Specification
footprint ONSC-SOD-523-2-502-01_V (SOD, 2-Leads, Body 1.2x0.8mm)
pins: 1 K, 2 A

## CMP-1557-00012-2
designator U?, comment ACS711KLCTR-12AB-T
SENSOR CURRENT HALL 12.5A AC/DC; Number of Channels: 1; Min Supply Voltage: 3V; Sensitivity: 110mV/A; Response Time: 4.6us; Operating Supply Voltage: 3.3V; Max Supply Voltage: 5.5V; Max Supply Current: 5.5mA; Bandwidth: 100kHz; Linearity: 1%; Quiescent Current: 4mA; Accuracy: 5%; Polarity: Bidirectional; Case/Package: SOIC; Packaging: Tape and Reel; Number of Pins: 8; Width: 3.9mm; Frequency: 100kHz; -3db Bandwidth: 100kHz; REACH SVHC: No SVHC; Series: -; Height: 1.5mm; Package Quantity: 1; Min Operating Temperature: -40°C; Max Operating Temperature: 125°C; Current Sensing: 12.5A; RoHS Compliant: Yes; Length: 4.9mm
footprint FP-LC-8-IPC_C
footprint FP-LC-8-MFG
footprint FP-LC-8-IPC_B
footprint FP-LC-8-IPC_A
pins: 1 IP+ (in), 2 IP+ (in), 3 IP- (in), 4 IP- (in), 5 GND (power), 6 ~{FAULT} (out), 7 VIOUT (out), 8 VCC (power)

## CMP-1557-00015-2
designator U?, comment ACS711KLCTR-25AB-T
SENSOR CURRENT HALL 25A AC/DC; Bandwidth: 100kHz; Min Supply Voltage: 3V; Polarity: Bidirectional; Max Supply Voltage: 5.5V; Max Supply Current: 5.5mA; Number of Channels: 1; Quiescent Current: 4mA; Sensitivity: 55mV/A; Accuracy: 4%; Linearity: 1%; Operating Supply Voltage: 3.3V; Response Time: 4.6us; Case/Package: SOIC; Min Operating Temperature: -40°C; RoHS Compliant: Yes; Length: 4.9mm; Package Quantity: 1; Number of Pins: 8; Width: 3.9mm; REACH SVHC: No SVHC; -3db Bandwidth: 100kHz; Series: -; Packaging: Tape and Reel; Max Operating Temperature: 125°C; Current Sensing: 25A; Height: 1.5mm; Frequency: 100kHz
footprint FP-LC-8-IPC_A
footprint FP-LC-8-IPC_B
footprint FP-LC-8-IPC_C
footprint FP-LC-8-MFG
pins: 1 IP+, 2 IP+, 3 IP-, 4 IP-, 5 GND (power), 6 ~{FAULT} (out), 7 VIOUT, 8 VCC (power)

## CMP-2000-00869-1
designator R?, comment ERT-J1VR103J
Manufacturer: Panasonic; Part Number: ERT-J1VR103J
footprint RESC1608X90X30ML15T20 (Chip Resistor, 2-Leads, Body 1.60x0.80mm, IPC Low Density)
footprint RESC1608X90X30NL15T20 (Chip Resistor, 2-Leads, Body 1.60x0.80mm, IPC Medium Density)
footprint RESC1608X90X30LL15T20 (Chip Resistor, 2-Leads, Body 1.60x0.80mm, IPC High Density)
pins: 1, 2
1 alternate drawing of the same symbol

## CMP-2000-04939-1
designator Q?, comment FDC6327C
Dual N & P-Channel 2.5 V Specified PowerTrench(TM) MOSFET, -55 to 150 degC, 6-Pin SOT-23, RoHS, Tape and Reel; Manufacturer: Fairchild; Typical Rise Time: 9@NChannel; Rad Hard: No; Maximum Drain Source Voltage: 20V; Typical Fall Time: 3@NChannel; Typical Turn-On Delay Time: 5@NChannel; Maximum Continuous Drain Current: 2.7@NChannel; Typical Turn-Off Delay Time: 12@NChannel; RDS-on: 80@4.5V@NChannel; Channel Mode: Enhancement; Maximum Gate Source Voltage: ±8V; Package Version: Rev. 5, 05/2015; Operating Temperature: -55to150degC; Packaging: Tape&Reel; Package Reference: SOT23-6; Package URL: https://www.fairchildsemi.com/package-drawings/MA/MA06A.pdf; Package Description: 6-Pin Small Outline Transistor, Body 2.9 x 1.6 mm, Pitch 0.95 mm; Manufacturer URL: https://www.fairchildsemi.com/; Channel Type: N; Datasheet Version: Rev. E, 07/2000; Package: 6SuperSOT; Datasheet URL: https://www.fairchildsemi.com/datasheets/FD/FDC6327C.pdf; Mounting: SurfaceMount; Category: MOSFET
footprint FAIR-SOT23-6_V (SOT23, 6-Leads, Body 2.9x1.6mm, Pitch 0.95mm)
part A pins: 2 S, 3 G, 4 D
part B pins: 1 G, 5 S, 6 D

## CMP-2000-04993-2
designator D?, comment 1N4148W-TP
DIODE GEN PURP 100V 150MA SOD123; Max Reverse Leakage Current: 5uA; Max Surge Current: 2A; Reverse Recovery Time: 4ns; Polarity: Standard; Capacitance: 4pF; Max Forward Surge Current (Ifsm): 1A; Element Configuration: Single; Power Dissipation: 400mW; Forward Voltage: 1V; Radiation Hardening: No; Lead Free: Lead Free; Max Reverse Voltage (DC): 100V; Current Rating: 150mA; Forward Current: 150mA; Packaging: Tape and Reel; Number of Pins: 2; Package Quantity: 3000; Max Operating Temperature: 150°C; Min Operating Temperature: -65°C; Average Rectified Current: 150mA; Recovery Time: 4ns; Output Current: 150mA; Peak Non-Repetitive Surge Current: 2A; Width: 1.8mm; Voltage Rating (DC): 100V; Height: 1.2mm; Max Repetitive Reverse Voltage (Vrrm): 100V; Mount: Surface Mount; Length: 2.85mm
footprint FP-SOD-123-IPC_A
footprint FP-SOD-123-MFG
footprint FP-SOD-123-IPC_B
footprint FP-SOD-123-IPC_C
pins: 1 C, 2 A

## CMP-2000-05097-3
designator D?, comment B540C-13-F  (value not drawn)
DIODE SCHOTTKY 40V 5A SMC; Manufacturer: Diodes Inc.; Automotive Grade: NA; Peak Reverse Current: 0.5mA; Value: 300pF; Max Junction Temp: +150°C; Max Surge Forward Current: 100A; Standoff Height: 0.1mm; Digikey Description: DIODE SCHOTTKY 40V 5A SMC; Temperature Range Low: -55°C; Manufacturer Part Number: B540C-13-F; Octopart: https://octopart.com/b540c-13-f-diodes+inc.-325873; Lead Free: Yes; Reverse Voltage: 40V; RoHS: TRUE; Category: Diode; Mouser Description: Diode: Schottky rectifying; SMD; 40V; 5A; SMC; Package: reel, tape; ComponentLink2Description: Datasheet; Temperature Range High: +150°C; Automotive: No; Footprint Url: https://www.diodes.com/assets/Package-Files/SMC.pdf; Device Class L3: Schottky Diodes; Height: 2.5mm; Forward Current: 5A; Temperature: -55°C to +150°C; Package: SMC; ComponentLink2URL: https://www.diodes.com/assets/Datasheets/ds13012.pdf; Device Class L2: Diodes; Max Repetitive Reverse Voltage: 40V; Device Class L1: Discrete Semiconductors; Capacitance: 300pF
footprint FP-SMC-MFG
pins: 1 C, 2 A

## CMP-2000-05461-1
designator XF?, comment 3557-2
FUSE HOLDER, PCB MOUNT, 500VAC, 20A, ROHS; Manufacturer: Keystone-Electronics; Number of Circuits: 1; Voltage: 500V; Fuseholder Type: Block; Fuse Type: Blade; Fuse Size: 0.43"Lx0.15"Wx0.64"H(10.92mmx3.81mmx16.25mm); For Use With/Related Products: ATC,ATO257,MINI897; Current Rating: 30A; Datasheet URL: http://datasheet.octopart.com/3557-2-Keystone-datasheet-15715937.pdf; Orientation: Vertical; Family: Fuseholders; Datasheet Version: Apr-13; Contact Finish: TinNickel; Mounting Type: PCB; Series: -; Category: CircuitProtection; Termination Style: PCPin; Contact Material: Brass; Manufacturer URL: http://www.keyelco.com/
footprint KSTN-3557-2 (Fuse Holder, PCB Mount, Thru-Hole, Body 19.8x6.8mm, Height 7.4mm)
pins: 1, 2, 3, 4

## CMP-2000-05463-1
designator BT?, comment 3001
Holder Battery Coin, 12 mm, 2-Pin THD, RoHS; Manufacturer: Keystone; Package Reference: 3001; Package Description: 2-Pin Through Hole Device, Body 13.21 x 12.07 mm; Datasheet Version: Rev. H, 09/2006; Datasheet URL: https://datasheet.ciiva.com/3/3001-3954.pdf; Mounting Technology: ThroughHole; Manufacturer URL: http://www.keyelco.com/
footprint KSTN-3001_V (THD, 2-Leads, Body 13.21x12.07mm)
pins: 1 +, 2 +, 3 -

## CMP-2000-05733-3
designator Y?, comment ABM8G-25.000MHZ-18-D2Y-T
Crystal 25MHz ±20ppm (Tol) ±30ppm (Stability) 18pF FUND 60Ω 4-Pin SMD T/R; Series Resistance: 60R; Length: 3.2mm; Depth: 2.5mm; Packaging: Tape and Reel; Min Operating Temperature: -40°C; Operating Frequency: 25 MHz; Lead Free: Lead Free; Number of Pins: 4; Frequency Tolerance: 20ppm; Radiation Hardening: No; Max Operating Temperature: 85°C; Termination: SMD/SMT; Frequency Stability: 30ppm; Frequency: 25MHz; Series: ABM8G; Mount: Surface Mount; Package Quantity: 1000; Height: 0.039inch; Width: 0.098inch; Case/Package: CSMD; ESR (Equivalent Series Resistance): 60R; Load Capacitance: 18pF; Tolerance: 20ppm
footprint FP-ABM8G-MFG
pins: 1, 2 GND (power), 3, 4 GND (power)

## CMP-2000-05848-1
designator SD?, comment 473521001
MicroSD(TM), Pitch 1.1 mm, 8 Position, Height 1.88 mm, -20 to 85 degC, RoHS, Tape and Reel; Manufacturer: Molex; Datasheet Version: Rev. G, 01/2012; Datasheet URL: http://www.molex.com/pdm_docs/sd/473521001_sd.pdf; Package Reference: 473521001; Manufacturer URL: http://www.molex.com/; Mounting Technology: SurfaceMount; Package Description: MicroSD(TM), Pitch 1.1 mm, 8 Position, Height 1.88 mm
footprint MOLX-473521001_V (SMD, 8-Leads, Body 15.2x14mm, Pitch 1.1mm)
pins: 1 DAT2, 2 CD/DAT3, 3 CMD, 4 VDD, 5 CLK, 6 VSS, 7 DAT0, 8 DAT1, 9 CD, 10 SHLD, 11 SHLD, 12 SHLD, 13 SHLD
text: CD/; DAT3; SD CARD

## CMP-2000-05968-1
designator Q?, comment BSS138W-7-F
N-Channel Enhancement Mode Mosfet, 50 V, 200 mA, -55 to 150 degC, 6-Pin SOT-323, RoHS, Tape and Reel; Typical Turn-Off Delay Time: 20ns; Number of Channels: 1Channel; Type: EnhancementModeFieldEffectTransistor; Brand: DiodesIncorporated; Vds - Drain-Source Breakdown Voltage: 75V; Vgs - Gate-Source Voltage: 20V; Rds On - Drain-Source Resistance: 1.4Ohms; Transistor Type: 1N-Channel; Configuration: Single; Unit Weight: 0.000212oz; Pd - Power Dissipation: 200mW; Id - Continuous Drain Current: 200mA; Forward Transconductance - Min: 0.1S; Manufacturer URL: http://www.diodes.com/; Series: BSS138; Package Description: 3-Pin Small Outline Transistor, Body 2 x 1.25 mm, Pitch 0.65 mm; Mounting Technology: SurfaceMount; Product Category: MOSFET; RoHS: True; Maximum Operating Temperature: +150C; Height: 1mm; Length: 2.2mm; Technology: Si; Width: 1.35mm; Datasheet URL: http://www.diodes.com/_files/datasheets/ds30206.pdf; Manufacturer: DiodesIncorporated; Package / Case: SOT-323-3; Typical Turn-On Delay Time: 20ns; Transistor Polarity: N-Channel; Factory Pack Quantity: 3000; Packaging: Reel; Product: MOSFETSmallSignal; Datasheet Version: Rev. 11-2, 09/2013; Package Reference: SOT323; Minimum Operating Temperature: -55C; Mounting Style: SMD/SMT; Channel Mode: Enhancement
footprint DIOD-SOT323-3_V (SOT323, 3-Leads, Body 2.2x1.35mm, Pitch 0.65mm)
pins: 1 G, 2 S, 3 D

## CMP-2000-06170-1
designator Q?, comment DMG1013UW-7
P-Channel Enhancement Mode MOSFET, 310 mW, 20 V, -55 to 150 degC, 3-Pin SOT-323, RoHS, Tape and Reel; Manufacturer: Diodes Inc; Qg Gate Charge: 0.622nC; Drain-Source On Resistance-Max: 750mO; Rated Power Dissipation: 310mW; Drain-to-Source Voltage [Vdss]: 20V; Package Reference: SOT323; Datasheet Version: Rev. 3-2, 09/2013; Package Description: 3-Pin Small Outline Transistor, Body 2 x 1.25 mm, Pitch 0.65 mm; Mounting Technology: SurfaceMount; Manufacturer URL: http://www.diodes.com/; Datasheet URL: http://www.diodes.com/_files/datasheets/ds31861.pdf; Channel Type: P-Channel
footprint DIOD-SOT323-3_V (SOT323, 3-Leads, Body 2.2x1.35mm, Pitch 0.65mm)
pins: 1 G, 2 S, 3 D

## CMP-2000-07146-2
designator L?, comment SRR1260-150M
FIXED IND 15UH 5A 27 MOHM SMD; Q Factor: 25; Sample Rate (Hz): 100kHz; Resistance: 27MR; Material: Steel; Inductance Tolerance: 20%; Frequency: 17.6MHz; Saturation Current: 4.6A; Core Material: Ferrite; Shielding: Shielded; Series: SRR1260; Termination: SMD/SMT; Packaging: Tape and Reel; RoHS Compliant: Yes; Height - Seated (Max): 0.256inch; Depth: 12.8mm; Case/Package: 1260; Inductance: 15uH; Height: 6mm; Number of Pins: 2; Mount: Surface Mount; Min Operating Temperature: -40°C; Test Frequency: 100kHz; Length: 12.5mm; Self Resonant Frequency: 17.6MHz; Current Rating: 5A; Tolerance: 20%; RMS Current (Irms): 5A; REACH SVHC: No SVHC; Resistor Type: Wirewound; DC Resistance (DCR): 27mR; Width: 12.5mm; Package Quantity: 600; DC Current: 5A; Max DC Current: 5A; Max Operating Temperature: 125°C; Military Standard: Not
footprint FP-SRR1260-MFG
pins: 1, 2

## CMP-2000-07208-1
designator C?, comment T495D157K010ATE100  (value not drawn)
Capacitor, Tantalum, 150 uF, +/- 10%, 10 V, -55 to 125 degC, 2-Pin SMD, RoHS, Tape and Reel; Manufacturer: Kemet; Capacitance: 150µF; ESR: 0.1ohm; Voltage Rating: 10V; Capacitor Case Style: 2917; Package Description: 2-Pin Surface Mount Device, Body 7.3 x 4.3 mm; MSL: MSL1-Unlimited; Package Reference: T495-D; Mounting Technology: SurfaceMount; Datasheet URL: http://capacitoredge.kemet.com/capedge2/DataSheet/Datasheet-T495D157K010ATE100.pdf?pn=T495D157K010ATE100; Datasheet Version: 09/2016; Capacitance Tolerance: ±10%; Capacitor Terminals: SMD; Operating Temperature Range: -55°Cto+125°C; Manufacturer URL: http://www.kemet.com/
footprint KEMT-T495-D_L (Molded Capacitor, 2-Leads, Body 7.6x4.6mm, IPC High Density)
footprint KEMT-T495-D_M (Molded Capacitor, 2-Leads, Body 7.6x4.6mm, IPC Low Density)
footprint KEMT-T495-D_N (Molded Capacitor, 2-Leads, Body 7.6x4.6mm, IPC Medium Density)
pins: 1, 2

## CMP-2006-02792-2
designator C?, comment GRM188R60J106ME47D  (value not drawn)
Chip Multilayer Ceramic Capacitors for General Purpose, 0603, 10uF, X5R, 15%, 20%, 6.3V; Packaging: Tape and Reel; Voltage Rating (DC): 6.3V; Width: 0.031inch; Termination: SMD/SMT; Dielectric: X5R; Package Quantity: 4000; Voltage Rating: 6.3V; Capacitance: 10uF; Case/Package: 0603; Min Operating Temperature: -55°C; Voltage: 6.3V; Length: 1.6mm; Thickness: 0.035inch; Lead Free: Lead Free; Depth: 0.8mm; Case Code (Imperial): 0603; Max Operating Temperature: 85°C; Material: Ceramic; Height: 0.8mm; Tolerance: 20%; Mount: Surface Mount; REACH SVHC: No SVHC; Radiation Hardening: No; Case Code (Metric): 1608
footprint FP-GRM188-0_1-e0_2_0_55-IPC_A
footprint FP-GRM188-0_1-e0_2_0_55-IPC_C
footprint FP-GRM188-0_1-e0_2_0_55-MFG
footprint FP-GRM188-0_1-e0_2_0_55-IPC_B
pins: 1, 2

## CMP-2007-03222-3
designator C?, comment GRM21BR61E226ME44L  (value not drawn)
Chip Multilayer Ceramic Capacitors for General Purpose, 0805, 22uF, X5R, 15%, 20%, 25V; Case/Package: 0805; Depth: 1.25mm; Resistor Type: Ceramic; Voltage Rating: 25V; Lead Free: Lead Free; Voltage Rating (DC): 25V; Case Code (Metric): 2012; Thickness: 0.057inch; REACH SVHC: No SVHC; Material: Ceramic; Tolerance: 20%; Length: 2mm; Capacitance: 22uF; Case Code (Imperial): 0805; Max Operating Temperature: 85°C; Termination: SMD/SMT; Weight: 0.000335oz; Dielectric: X5R; Packaging: Tape and Reel; Voltage: 25V; Package Quantity: 3000; Height: 1.25mm; Mount: Surface Mount; Width: 1.25mm; Min Operating Temperature: -55°C
footprint FP-GRM21B-0_2-e0_2_0_7-IPC_B
footprint FP-GRM21B-0_2-e0_2_0_7-MFG
footprint FP-GRM21B-0_2-e0_2_0_7-IPC_C
footprint FP-GRM21B-0_2-e0_2_0_7-IPC_A
pins: 1, 2

## CMP-02766-001053-1
designator J?, comment MTLW-102-07-G-S-230
CONN HEADER VERT 2POS 2.54MM; Max Current Rating: 3A; Number of Contacts: 2; Gender: Male; Housing Color: Black; Housing Material: Polymer; Radiation Hardening: No; Min Operating Temperature: -55°C; Contact Plating: Gold; Termination: Solder; Number of Rows: 1; Max Operating Temperature: 125°C; Contact Material: Bronze; Pitch: 2.54mm; Depth: 2.48mm; Length: 5.08mm; Orientation: Straight; Packaging: Bulk
footprint FP-MTLW-102-07-G-S-230-MFG
pins: 1, 2

## CMP-03360-000008-1
designator J?, comment 292303-7
CONN RCPT USB2.0 TYPEA 4P SMD RA; Manufacturer: TE Connectivity; Is Female: yes; Current Rating: 1A; Number Of Contacts: 4; Voltage Rating: 30V; Conn Orientation: Right Angle; Shielding: true; Digikey Description: CONN RCPT USB2.0 TYPEA 4P SMD RA; Manufacturer Part Number: 292303-7; Automotive: No; Category: Conn; Temperature: -55°C to +85°C; ComponentLink2Description: Datasheet; Mouser Description: USB Connectors USB A R/A Recpt Assy SMT; Contact Material: Gold,Nickel; Package: 292303-7; Device Class L3: unset; Octopart: https://octopart.com/292303-7-te+connectivity-42840369; RoHS: TRUE; Device Class L2: USB Connectors; ComponentLink2URL: https://www.te.com/usa-en/product-292303-7.html?te_bu=Cor&te_type=other&te_campaign=oct_glo_cor-oct-global-oth-prtnr-fy19-oct-octo-buy-bom_sma-298_2&elqCampaignId=35216; Temperature Range Low: -55°C; Usb Standard: USB 2.0; Temperature Range High: +85°C; Lead Free: Yes; Device Class L1: Connectors
footprint FP-292303-7-MFG
pins: 1, 2, 3, 4, 5 MNT 1, 6 MNT 2

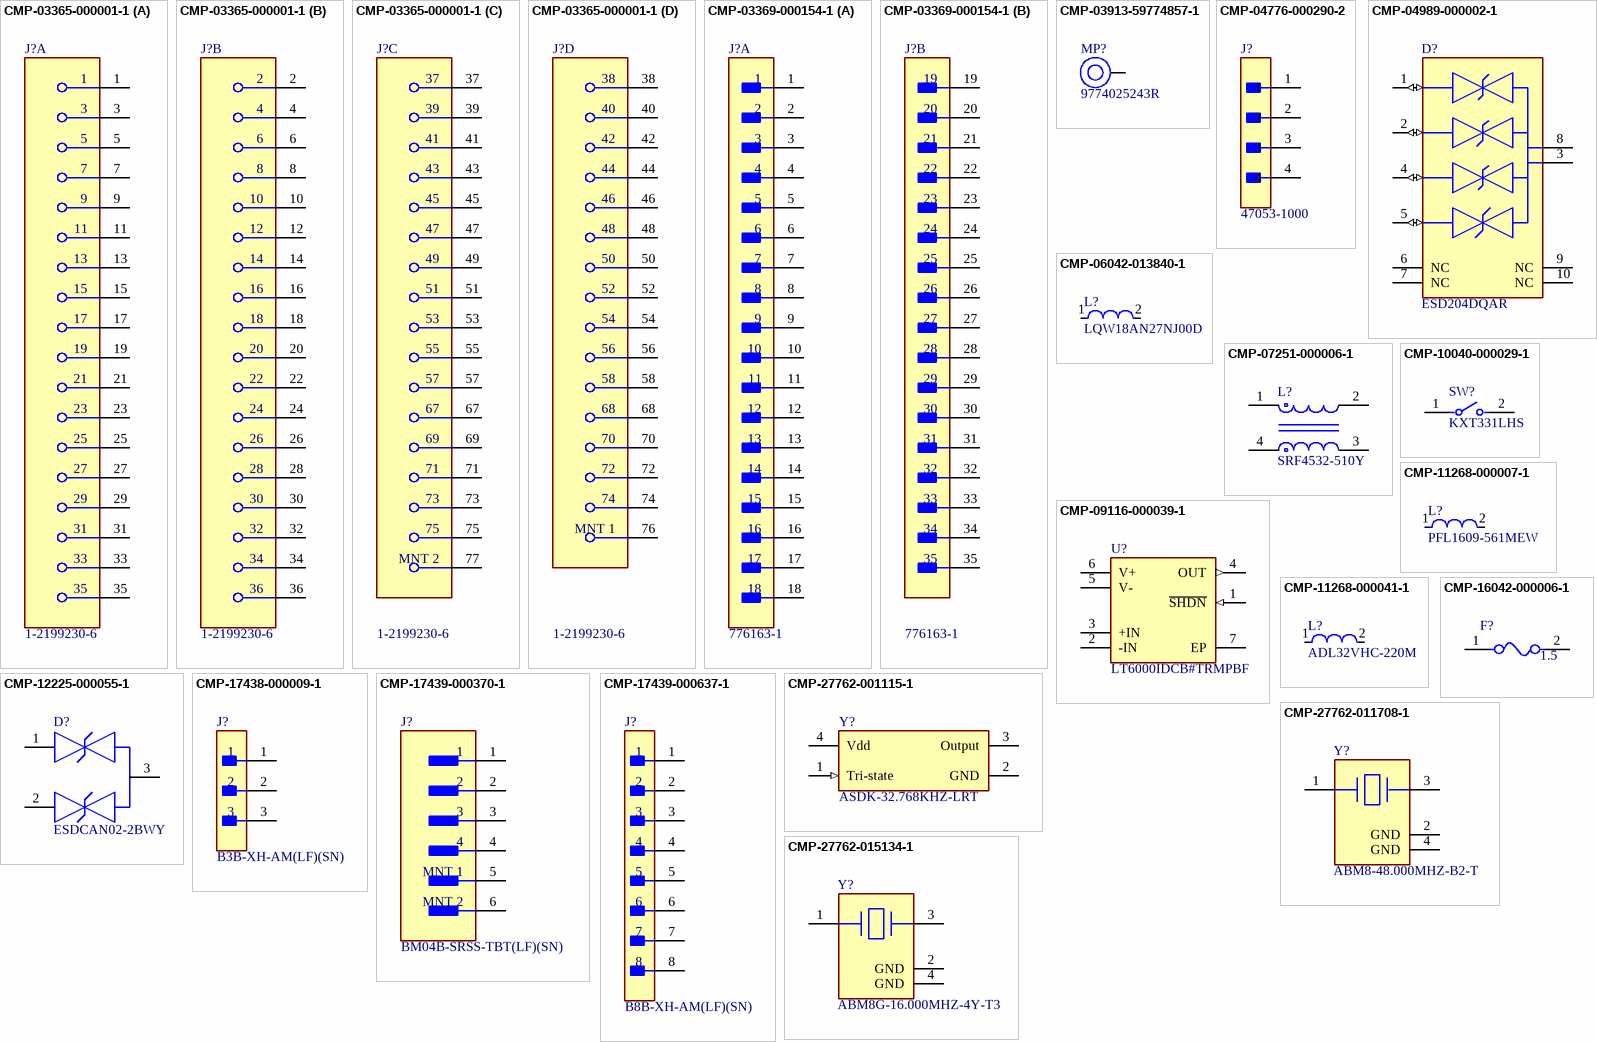
[diagram p2: symbols CMP-03365-000001-1 to CMP-27762-015134-1]

## CMP-03365-000001-1
designator J?, comment 1-2199230-6
CONN EDGE DUAL FMALE 67POS 0.020; Manufacturer: TE; Number Of Contacts: 67; Current Rating: 0.5A; Pitch: 0.5mm; Conn Gender: Female; Is Female: yes; Voltage Rating: 50V; Conn Orientation: Right Angle; Automotive: No; Temperature Range High: +80°C; Package: 1-2199230-6; Category: Conn; Temperature: -40°C to +80°C; Number Of Rows: 2; ComponentLink2URL: http://www.te.com/commerce/DocumentDelivery/DDEController?Action=showdoc&DocId=Specification+Or+Standard%7F114-115006%7FB%7Fpdf%7FEnglish%7FENG_SS_114-115006_B_114-115006_REV_B.pdf%7F1-2199230-6; Manufacturer Part Number: 1-2199230-6; Height: 4.2mm; RoHS: TRUE; Footprint Url: http://www.te.com/commerce/DocumentDelivery/DDEController?Action=showdoc&DocId=Customer+Drawing%7F2199230%7FB2%7Fpdf%7FEnglish%7FENG_CD_2199230_B2.pdf%7F1-2199230-6; Digikey Description: CONN EDGE DUAL FMALE 67POS 0.020; Device Class L2: Card Edge Connectors; Contact Material: Gold,Tin; Device Class L1: Connectors; Device Class L3: unset; ComponentLink2Description: Datasheet; Temperature Range Low: -40°C; Octopart: https://octopart.com/1-2199230-6-te+connectivity-34969376; Lead Free: Yes
footprint FP-1-2199230-6-MFG
part A pins: 1, 3, 5, 7, 9, 11, 13, 15, 17, 19, 21, 23, 25, 27, 29, 31, 33, 35
part B pins: 2, 4, 6, 8, 10, 12, 14, 16, 18, 20, 22, 24, 26, 28, 30, 32, 34, 36
part C pins: 37, 39, 41, 43, 45, 47, 49, 51, 53, 55, 57, 67, 69, 71, 73, 75, 77 MNT 2
part D pins: 38, 40, 42, 44, 46, 48, 50, 52, 54, 56, 58, 68, 70, 72, 74, 76 MNT 1